# Altium footprint library Antenna.PcbLib: 1 footprints
Each footprint in its own frame and in the unit in brackets; x right, y up, seen from the top. Pads: shape width x height; smd on the part's side, far side on the other; paste and mask are expansions set on the pad; w line width, h text height; cw(c..) or ccw(c..) is an arc to the next point about the centre after c.
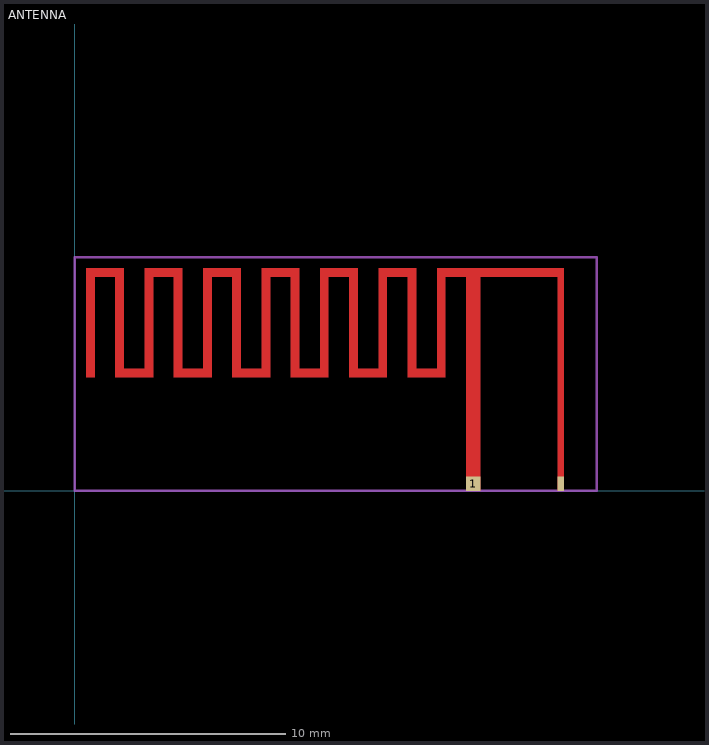
[diagram p0: the footprint, top view; thin cyan lines are the x and y axes]

## ANTENNA [mm]
pads (2):
  rect 0.52x0.52 smd paste-2539.97 mask+0.102: 1(14.5,0.26)
  rect 0.235x0.52 smd paste-2539.97 mask+0.102: 2(17.692,0.26)
Top Layer:
  region: 13.176,8.1 13.176,4.131 13.501,4.131 13.501,8.1
  rectangle: 14.24,7.783 17.809,8.1
  region: 14.76,0 14.76,8.1 14.24,8.1 14.24,0
  region: 17.809,0 17.809,8.1 17.574,8.1 17.574,0
  rectangle: 13.176,7.775 14.76,8.1
  rectangle: 12.112,4.131 13.501,4.456
  region: 12.112,8.1 12.112,4.131 12.437,4.131 12.437,8.1
  rectangle: 11.048,7.775 12.437,8.1
  region: 11.048,8.1 11.048,4.131 11.373,4.131 11.373,8.1
  rectangle: 9.984,4.131 11.373,4.456
  region: 9.984,8.1 9.984,4.131 10.309,4.131 10.309,8.1
  rectangle: 8.92,7.775 10.309,8.1
  region: 8.92,8.1 8.92,4.131 9.245,4.131 9.245,8.1
  rectangle: 7.856,4.131 9.245,4.456
  region: 7.856,8.1 7.856,4.131 8.181,4.131 8.181,8.1
  rectangle: 6.792,7.775 8.181,8.1
  region: 6.792,8.1 6.792,4.131 7.117,4.131 7.117,8.1
  rectangle: 5.728,4.131 7.117,4.456
  region: 5.728,8.1 5.728,4.131 6.053,4.131 6.053,8.1
  rectangle: 4.664,7.775 6.053,8.1
  region: 4.664,8.1 4.664,4.131 4.989,4.131 4.989,8.1
  rectangle: 3.6,4.131 4.989,4.456
  region: 3.6,8.1 3.6,4.131 3.925,4.131 3.925,8.1
  rectangle: 2.536,7.775 3.925,8.1
  region: 2.536,8.1 2.536,4.131 2.861,4.131 2.861,8.1
  rectangle: 1.472,4.131 2.861,4.456
  region: 1.472,8.1 1.472,4.131 1.797,4.131 1.797,8.1
  rectangle: 0.408,7.775 1.797,8.1
  region: 0.408,8.1 0.408,4.131 0.733,4.131 0.733,8.1
Mechanical 1:
  lines w0.1: 0,0 19,0 19,8.5 0,8.5 0,0